# Altium footprint library CCZynq.PcbLib: 36 footprints (part 2 of 3)
Each footprint in its own frame and in the unit in brackets; x right, y up, seen from the top. Pads: shape width x height; smd on the part's side, far side on the other; paste and mask are expansions set on the pad; w line width, h text height; cw(c..) or ccw(c..) is an arc to the next point about the centre after c.
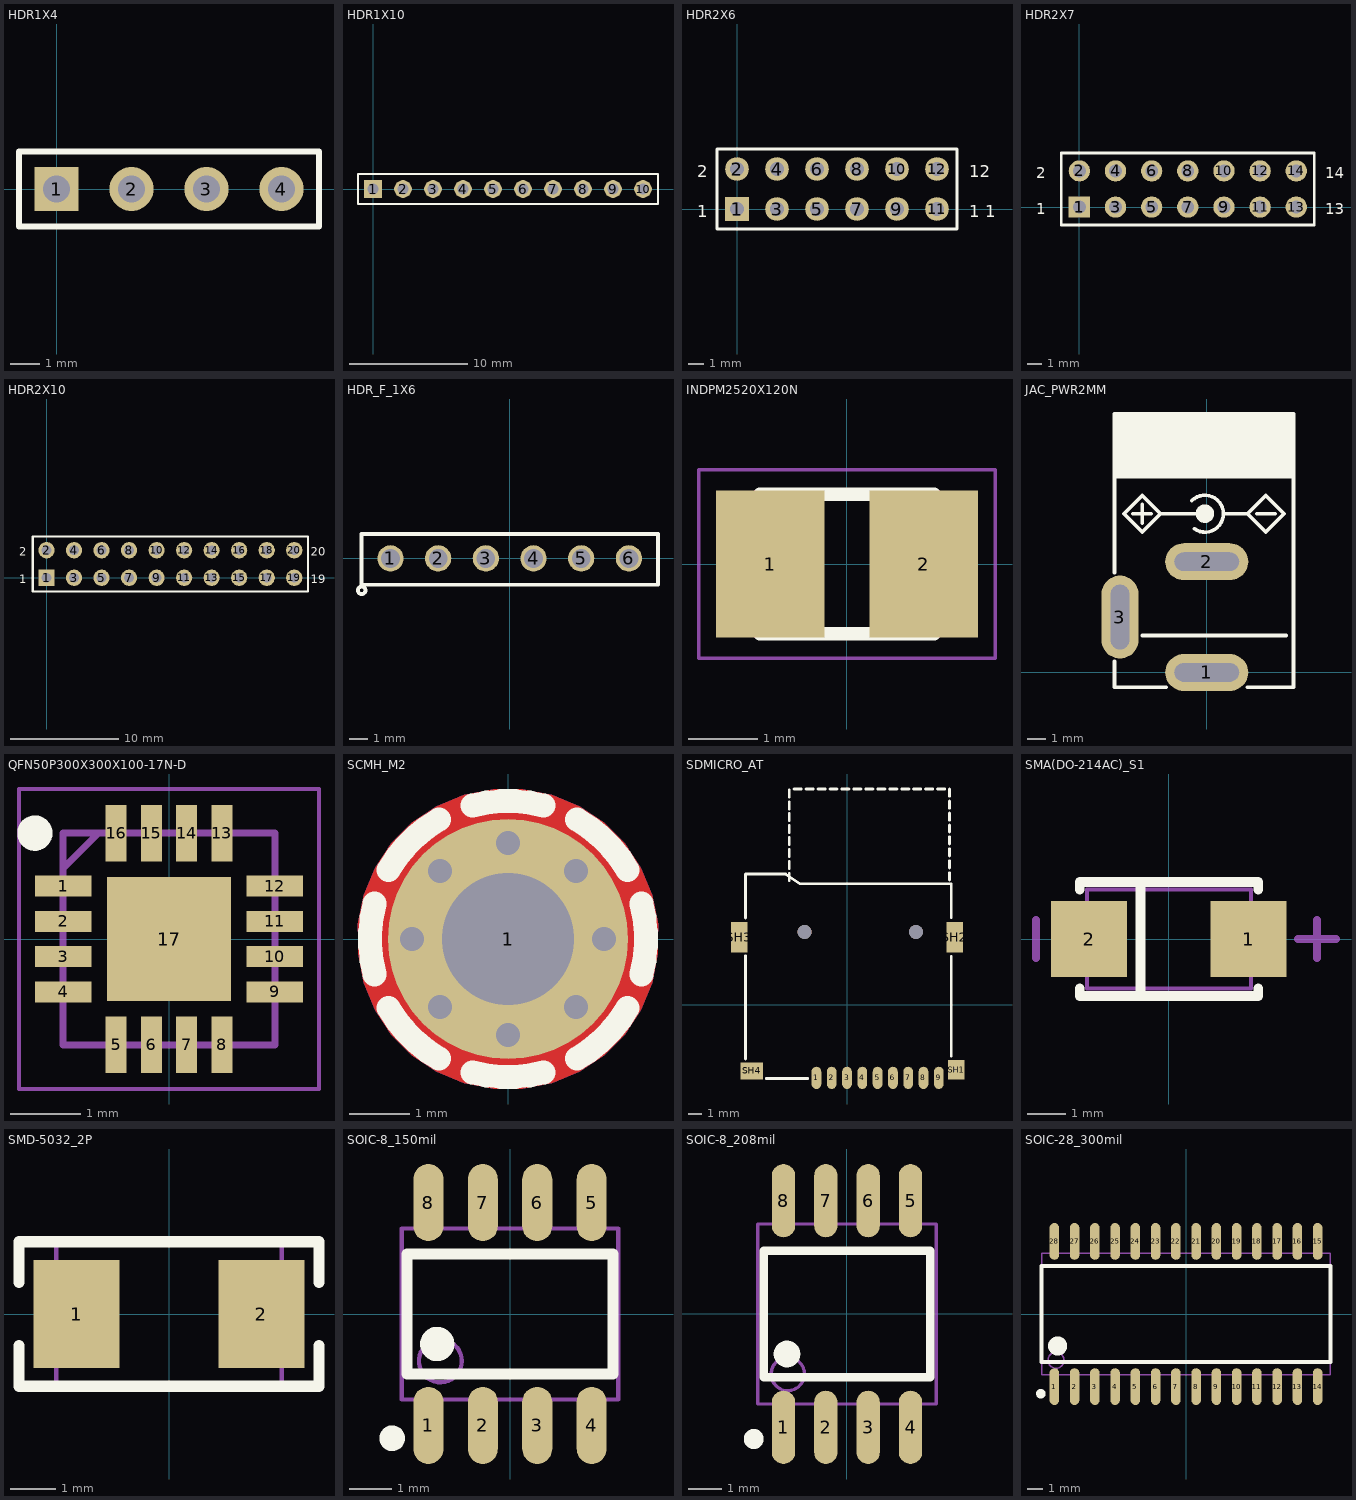
[diagram p1: the footprints below, top view; thin cyan lines are the x and y axes]

## HDR1X4 [mm]
pads (4):
  rect 1.5x1.5 hole 0.9: 1(0,0)
  round 1.5 hole 0.9: 2(2.54,0) 3(5.08,0) 4(7.62,0)
Top Overlay:
  lines w0.2: -1.27,-1.27 8.89,-1.27 8.89,1.27 -1.27,1.27 -1.27,-1.27

## HDR1X10 [mm]
pads (10):
  rect 1.5x1.5 hole 0.9: 1(0,0)
  round 1.5 hole 0.9: 2(2.54,0) 3(5.08,0) 4(7.62,0) 5(10.16,0) 6(12.7,0) 7(15.24,0) 8(17.78,0) 9(20.32,0) 10(22.86,0)
Top Overlay:
  lines w0.2: -1.27,-1.27 24.13,-1.27 24.13,1.27 0.635,1.27 -1.27,1.27 -1.27,-1.27

## HDR2X6 [mm]
pads (12):
  rect 1.5x1.5 hole 0.9: 1(0,0)
  round 1.5 hole 0.9: 2(0,2.54) 3(2.54,0) 4(2.54,2.54) 5(5.08,0) 6(5.08,2.54) 7(7.62,0) 8(7.62,2.54) 9(10.16,0) 10(10.16,2.54) 11(12.7,0) 12(12.7,2.54)
Top Overlay:
  lines w0.2: -1.27,-1.27 -1.27,3.81 13.97,3.81 13.97,-1.27 -1.27,-1.27
  text "2" at -2.54,2.032 h0.76
  text "1" at -2.54,-0.508 h0.76
  text "1" at 14.732,-0.508 h0.76
  text "1" at 15.748,-0.508 h0.76
  text "12" at 14.732,2.032 h0.76

## HDR2X7 [mm]
pads (14):
  rect 1.5x1.5 hole 0.9: 1(0,0)
  round 1.5 hole 0.9: 2(0,2.54) 3(2.54,0) 4(2.54,2.54) 5(5.08,0) 6(5.08,2.54) 7(7.62,0) 8(7.62,2.54) 9(10.16,0) 10(10.16,2.54) 11(12.7,0) 12(12.7,2.54) 13(15.24,0) 14(15.24,2.54)
Top Overlay:
  lines w0.2: -1.27,-1.27 -1.27,3.81 16.51,3.81 16.51,-1.27 -1.27,-1.27
  text "2" at -3.048,2.032 h0.76
  text "1" at -3.048,-0.508 h0.76
  text "14" at 17.272,2.032 h0.76
  text "13" at 17.272,-0.508 h0.76

## HDR2X10 [mm]
pads (20):
  rect 1.5x1.5 hole 0.9: 1(0,0)
  round 1.5 hole 0.9: 2(0,2.54) 3(2.54,0) 4(2.54,2.54) 5(5.08,0) 6(5.08,2.54) 7(7.62,0) 8(7.62,2.54) 9(10.16,0) 10(10.16,2.54) 11(12.7,0) 12(12.7,2.54) 13(15.24,0) 14(15.24,2.54) 15(17.78,0) 16(17.78,2.54) 17(20.32,0) 18(20.32,2.54) 19(22.86,0) 20(22.86,2.54)
Top Overlay:
  lines w0.2: -1.27,-1.27 0.635,-1.27 24.13,-1.27 24.13,3.81 0.635,3.81 -1.27,3.81 -1.27,-1.27
  text "20" at 24.384,2.032 h0.76
  text "19" at 24.384,-0.508 h0.76
  text "1" at -2.54,-0.508 h0.76
  text "2" at -2.54,2.032 h0.76

## HDR_F_1X6 [mm]
pads (6):
  round 1.4 / inner round 1.4 / far side oval 1.4x2.2 hole 1 mask+0.1: 1(-6.35,0) 2(-3.81,0) 3(-1.27,0) 4(1.27,0) 5(3.81,0) 6(6.35,0)
Top Overlay:
  circle w0.2: c-7.88,-1.7 r0.2
  lines w0.2: -7.9,-1.4 -7.9,1.3 7.9,1.3 7.9,-1.4 -7.9,-1.4
3D body "female_header_a-bl254-eg-g03d.stp": height 8.5, standoff -3.2, extent -7.745,-1.3 0.125,1.2
3D body "female_header_a-bl254-eg-g03d.stp": height 8.5, standoff -3.2, extent -0.125,-1.3 7.745,1.2

## INDPM2520X120N [mm]
pads (2):
  rect 1.55x2.1 smd: 1(-1.1,0) 2(1.1,0)
Top Overlay:
  lines w0.2: -1.25,-1 1.25,-1 ; -1.25,1 1.25,1
Mechanical 13:
  lines w0.1: -1.25,-1 1.25,-1 1.25,1 -1.25,1 -1.25,-1
Mechanical 15:
  lines w0.05: -2.125,-1.35 2.125,-1.35 2.125,1.35 -2.125,1.35 -2.125,-1.35
3D body "252012CDMCDS©\2R2MC.stp": height 1.2, standoff 0, extent -1.25,-1 1.25,1

## JAC_PWR2MM [mm]
pads (3):
  oval 4.5x2 hole 1 slot 3.5 at 0 deg: 1(0,0) 2(0,6)
  oval 2x4.5 hole 1 slot 3.5 at 90 deg: 3(-4.7,3)
Top Overlay:
  circle w0.4: c-0.1,8.6 r0.3
  rectangle: -5,10.5 4.7,14
  lines w0.2: -5,0.6 -5,-0.8 -2.2,-0.8 ; -5,5.4 -5,14 4.7,14 4.7,-0.8 2.2,-0.8 ; -4,8.6 -3,8.6 ; -3.5,2 4.3,2 ; -3.5,8.1 -3.5,9.1 ; -0.807,9.307 cw(c-0.1,8.6) -0.674,7.781 ; -0.1,8.6 -2.5,8.6 ; 0.9,8.6 2.2,8.6 ; 2.7,8.6 3.7,8.6 ; -2.5,8.6 -3.49,7.61 -4.48,8.6 -3.49,9.59 -2.5,8.6 ; 2.2,8.6 3.19,9.59 4.18,8.6 3.19,7.61 2.2,8.6
3D body "KLDX-0202-A_rD2.STEP": height 10.8, standoff -4.1, extent -4.9,-0.65 4.5,13.85

## QFN50P300X300X100-17N-D [mm]
pads (17):
  rect 0.8x0.3 smd: 1(-1.5,0.75) 2(-1.5,0.25) 3(-1.5,-0.25) 4(-1.5,-0.75) 9(1.5,-0.75) 10(1.5,-0.25) 11(1.5,0.25) 12(1.5,0.75)
  rect 0.3x0.8 smd: 5(-0.75,-1.5) 6(-0.25,-1.5) 7(0.25,-1.5) 8(0.75,-1.5) 13(0.75,1.5) 14(0.25,1.5) 15(-0.25,1.5) 16(-0.75,1.5)
  rect 1.75x1.75 smd: 17(0,0)
Top Overlay:
  circle w0.25: c-1.9,1.5 r0.125
Mechanical 13:
  lines w0.1: -1.5,1 -1,1.5 ; -1.5,-1.5 -1.5,1.5 1.5,1.5 1.5,-1.5 -1.5,-1.5
Mechanical 15:
  lines w0.05: -2.125,-2.125 -2.125,2.125 2.125,2.125 2.125,-2.125 -2.125,-2.125
3D body "TLV62130RGTR.stp": height 1, standoff 0, extent -1.55,-1.55 1.55,1.55

## SCMH_M2 [mm]
pads (1):
  round 4 / inner round 2.5 / far side round 4 hole 2.2 mask+0.1: 1(0,0)
via 0,-1.6 diameter 0.6 hole 0.4
via 0,1.6 diameter 0.6 hole 0.4
via -1.131,1.131 diameter 0.6 hole 0.4
via 1.131,-1.131 diameter 0.6 hole 0.4
via -1.6,0 diameter 0.6 hole 0.4
via 1.6,0 diameter 0.6 hole 0.4
via -1.131,-1.131 diameter 0.6 hole 0.4
via 1.131,1.131 diameter 0.6 hole 0.4
Top Layer:
  pour cut-out: 0,2.5 -0.246,2.5 -0.729,2.404 -1.184,2.216 -1.594,1.942 -1.942,1.594 -2.216,1.184 -2.404,0.729 -2.5,0.246 -2.5,0 -2.5,-0.246 -2.404,-0.729 -2.215,-1.184 -1.942,-1.594 -1.594,-1.942 -1.184,-2.215 -0.729,-2.404 -0.246,-2.5 0,-2.5 0.246,-2.5 0.729,-2.404 1.184,-2.215 1.594,-1.942 1.942,-1.594 2.215,-1.184 2.404,-0.729 2.5,-0.246 2.5,0 2.5,0.246 2.404,0.729 2.215,1.184 1.942,1.594 1.594,1.942 1.184,2.216 0.729,2.404 0.246,2.5
Bottom Layer:
  pour cut-out: 0,2.5 -0.246,2.5 -0.729,2.404 -1.184,2.216 -1.594,1.942 -1.942,1.594 -2.216,1.184 -2.404,0.729 -2.5,0.246 -2.5,0 -2.5,-0.246 -2.404,-0.729 -2.215,-1.184 -1.942,-1.594 -1.594,-1.942 -1.184,-2.215 -0.729,-2.404 -0.246,-2.5 0,-2.5 0.246,-2.5 0.729,-2.404 1.184,-2.215 1.594,-1.942 1.942,-1.594 2.215,-1.184 2.404,-0.729 2.5,-0.246 2.5,0 2.5,0.246 2.404,0.729 2.215,1.184 1.942,1.594 1.594,1.942 1.184,2.216 0.729,2.404 0.246,2.5
Top Overlay:
  lines w0.4: -2.222,-0.595 cw(c0,0) -2.222,0.595 ; -1.992,-1.15 ccw(c0,0) -1.15,-1.992 ; -1.992,1.15 cw(c0,0) -1.15,1.992 ; -0.595,-2.222 ccw(c0,0) 0.595,-2.222 ; -0.595,2.222 cw(c0,0) 0.595,2.222 ; 1.15,-1.992 ccw(c0,0) 1.992,-1.15 ; 1.15,1.992 cw(c0,0) 1.992,1.15 ; 2.222,-0.595 ccw(c0,0) 2.222,0.595

## SDMICRO_AT [mm]
pads (15):
  oval 0.7x1.6 smd: 1(-2.2,-5.25) 2(-1.1,-5.25) 3(0,-5.25) 4(1.1,-5.25) 5(2.2,-5.25) 6(3.3,-5.25) 7(4.4,-5.25) 8(5.5,-5.25) 9(6.6,-5.25)
  rect 1.2x1.4 smd: SH1(7.85,-4.65)
  rect 1.2x2.2 smd: SH2(7.75,4.85) SH3(-7.75,4.85)
  rect 1.6x1.2 smd: SH4(-6.85,-4.75)
  round 1 hole 1 unplated mask+0.102: ""(-3.05,5.25) ""(4.95,5.25)
Top Overlay:
  lines w0.2: -7.3,-3.9 -7.3,3.53 ; -7.3,6.25 -7.3,9.4 -4.409,9.4 -3.399,8.7 7.5,8.7 7.5,6.26 ; -5.8,-5.3 -2.82,-5.3 ; -4.16,8.93 -4.16,9.45 ; -4.16,9.79 -4.16,10.31 ; -4.16,10.65 -4.16,11.17 ; -4.16,11.51 -4.16,12.03 ; -4.16,12.37 -4.16,12.89 ; -4.16,13.23 -4.16,13.75 ; -4.16,14.09 -4.16,14.61 ; -4.16,14.95 -4.16,15.47 ; -3.81,15.52 -3.29,15.52 ; -2.95,15.52 -2.43,15.52 ; -2.09,15.52 -1.57,15.52 ; -1.23,15.52 -0.71,15.52 ; -0.37,15.52 0.15,15.52 ; 0.49,15.52 1.01,15.52 ; 1.35,15.52 1.87,15.52 ; 2.21,15.52 2.73,15.52 ; 3.07,15.52 3.59,15.52 ; 3.93,15.52 4.45,15.52 ; 4.79,15.52 5.31,15.52 ; 5.65,15.52 6.17,15.52 ; 6.51,15.52 7.03,15.52 ; 7.37,8.98 7.37,9.5 ; 7.37,9.84 7.37,10.36 ; 7.37,10.7 7.37,11.22 ; 7.37,11.56 7.37,12.08 ; 7.37,12.42 7.37,12.94 ; 7.37,13.28 7.37,13.8 ; 7.37,14.14 7.37,14.66 ; 7.37,15 7.37,15.52 ; 7.5,-3.7 7.5,3.5
3D body "112J-TXAR-R_C_1.stp": height 1.85, standoff -0.6, extent -8,-5.703 8.1,9.3
3D body "User Library-Micro_SD.step": height 1.15, standoff 0.17, extent -3.976,-1.179 7.024,13.821

## SMA(DO-214AC)_S1 [mm]
pads (2):
  rect 2x2 smd: 1(2.1,0) 2(-2.1,0)
Top Overlay:
  lines w0.254: -2.35,-1.3 -2.35,-1.5 2.35,-1.5 2.35,-1.3 ; -2.35,1.3 -2.35,1.5 2.35,1.5 2.35,1.3 ; -0.75,-1.5 -0.75,1.5
Mechanical 13:
  lines w0.1: -2.16,-1.3 2.16,-1.3 2.16,1.3 -2.16,1.3 -2.16,-1.3
Mechanical 15:
  lines w0.203: -3.5,-0.5 -3.5,0.5 ; 3.4,0 4.4,0 ; 3.9,-0.5 3.9,0.5

## SMD-5032_2P [mm]
pads (2):
  rect 1.9x2.4 smd: 1(-2.05,0) 2(2.05,0)
Top Overlay:
  lines w0.254: -3.325,-0.7 -3.325,-1.6 3.325,-1.6 3.325,-0.7 ; -3.325,0.7 -3.325,1.6 3.325,1.6 3.325,0.7
Mechanical 13:
  lines w0.1: -2.5,-1.6 -2.5,1.6 2.5,1.6 2.5,-1.6 -2.5,-1.6

## SOIC-8_150mil [mm]
pads (8):
  oval 0.7x1.8 smd: 1(-1.905,-2.6) 2(-0.635,-2.6) 3(0.635,-2.6) 4(1.905,-2.6) 5(1.905,2.6) 6(0.635,2.6) 7(-0.635,2.6) 8(-1.905,2.6)
Top Overlay:
  circle w0.4: c-1.7,-0.7 r0.2
  circle w0.3: c-2.75,-2.9 r0.15
  lines w0.254: -2.4,-1.4 -2.4,1.4 2.4,1.4 2.4,-1.4 -2.4,-1.4
Mechanical 13:
  circle w0.1: c-1.625,-1.095 r0.5
  lines w0.1: -2.525,-1.995 -2.525,1.995 2.525,1.995 2.525,-1.995 -2.525,-1.995

## SOIC-8_208mil [mm]
pads (8):
  oval 0.7x2.2 smd: 1(-1.905,-3.4) 2(-0.635,-3.4) 3(0.635,-3.4) 4(1.905,-3.4) 5(1.905,3.4) 6(0.635,3.4) 7(-0.635,3.4) 8(-1.905,3.4)
Top Overlay:
  circle w0.3: c-2.797,-3.75 r0.15
  circle w0.4: c-1.8,-1.2 r0.2
  lines w0.254: -2.5,-1.9 -2.5,1.9 2.5,1.9 2.5,-1.9 -2.5,-1.9
Mechanical 13:
  circle w0.1: c-1.775,-1.8 r0.5
  lines w0.1: -2.675,-2.7 -2.675,2.7 2.675,2.7 2.675,-2.7 -2.675,-2.7

## SOIC-28_300mil [mm]
pads (28):
  oval 0.6x2.3 smd: 1(-8.255,-4.55) 2(-6.985,-4.55) 3(-5.715,-4.55) 4(-4.445,-4.55) 5(-3.175,-4.55) 6(-1.905,-4.55) 7(-0.635,-4.55) 8(0.635,-4.55) 9(1.905,-4.55) 10(3.175,-4.55) 11(4.445,-4.55) 12(5.715,-4.55) 13(6.985,-4.55) 14(8.255,-4.55) 15(8.255,4.55) 16(6.985,4.55) 17(5.715,4.55) 18(4.445,4.55) 19(3.175,4.55) 20(1.905,4.55) 21(0.635,4.55) 22(-0.635,4.55) 23(-1.905,4.55) 24(-3.175,4.55) 25(-4.445,4.55) 26(-5.715,4.55) 27(-6.985,4.55) 28(-8.255,4.55)
Top Overlay:
  circle w0.6: c-8.05,-2 r0.3
  circle w0.3: c-9.1,-5 r0.15
  lines w0.254: -9.05,-3 9.05,-3 9.05,3 -9.05,3 -9.05,-3
Mechanical 13:
  circle w0.1: c-8.15,-2.9 r0.5
  lines w0.1: -9.05,-3.8 9.05,-3.8 9.05,3.8 -9.05,3.8 -9.05,-3.8